# Altium schematic symbol library ic-logic.SchLib: 21 symbols
Pins are listed as number, name and electrical type; pins without a type are passive.

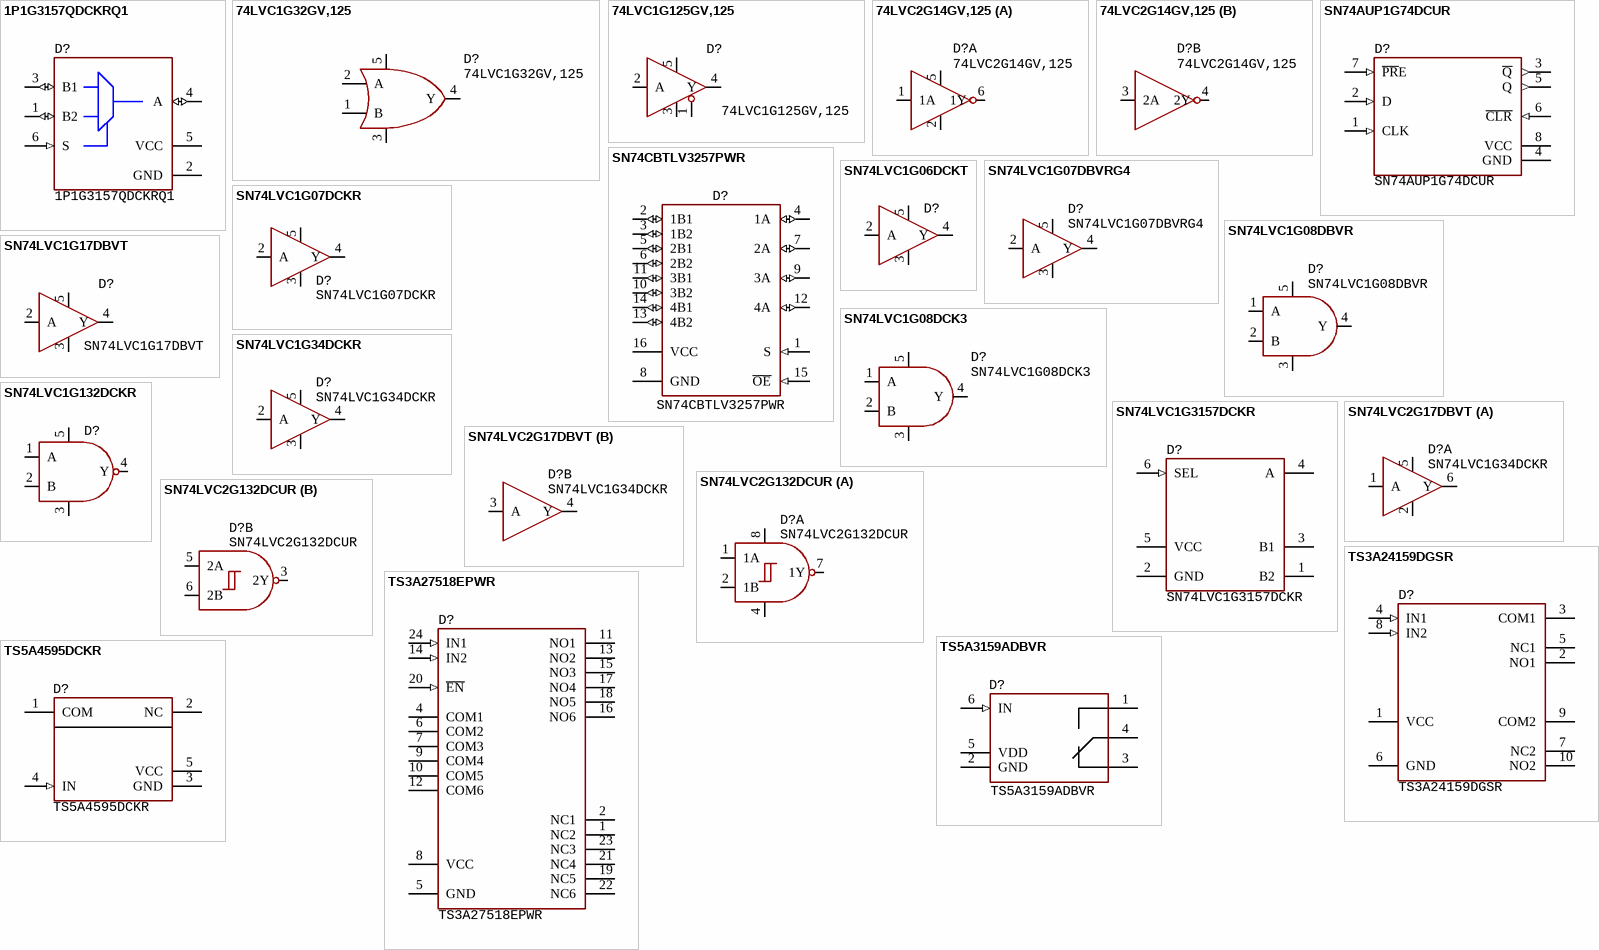
[diagram p0: symbols 1P1G3157QDCKRQ1 to TS5A4595DCKR]

## 1P1G3157QDCKRQ1
designator D?
Analog switch, 1 pole, 1.65...5.5V, 15 Ohms, SC-70-6, -40...+125°C; Manufacturer: Texas Instruments; Package: SC-70-6; HelpURL: https://www.mouser.com/ProductDetail/Texas-Instruments/1P1G3157QDCKRQ1?qs=%2Fha2pyFaduiUJMScsfPg68chY3bChjCSu2b4JoFHBef8j3LlniS09w%3D%3D; Manufacturer Part Number: 1P1G3157QDCKRQ1; Component Type: Interface; PartNumber: 1P1G3157QDCKRQ1
footprint SC70-6
pins: 1 B2 (io), 2 GND, 3 B1 (io), 4 A (io), 5 VCC, 6 S (in)

## 74LVC1G32GV,125
designator D?
OR, 2 input, 32 mA, supply 1.65...5.5V, SOT-23-5 (SC-74A-5), -40...+125°C; Manufacturer: Nexperia; HelpURL: https://www.mouser.com/ProductDetail/Nexperia/74LVC1G32GV125?qs=me8TqzrmIYXExQH4V9SARg%3D%3D; Package: SOT-23-5; Manufacturer Part Number: 74LVC1G32GV,125; Component Type: Logic; PartNumber: 74LVC1G32GV,125
footprint SOT23-5 (pitch 0.95 mm)
pins: 1 B, 2 A, 3 GND, 4 Y, 5 VDD

## 74LVC1G125GV,125
designator D?
Buffer, 32 mA, 5.5ns, supply 1.65...5.5V, SC-74A-5, -40...+125°C; Manufacturer: Nexperia; Manufacturer: NXP Semiconductors; Package: SC-74A-5; HelpURL: https://www.mouser.com/ProductDetail/Nexperia/74LVC1G125GV125?qs=%2Fha2pyFadui5%2FGGEC%2FVyhjOA8QwInj0hXNWtQZwklniRB7kLLcXiAw%3D%3D; PartNumber: 74LVC1G125GV,125
footprint SOT23-5 (pitch 0.95 mm)
pins: 1 #OE, 2 A, 3 GND (power), 4 Y, 5 VCC (power)

## 74LVC2G14GV,125
designator D?
Inverting Trigger, 2 channels, 24mA, 5.5ns, supply 1.65...5.5V, SOT-23-6, -40...+125°C; Manufacturer: Nexperia; HelpURL: https://ru.mouser.com/ProductDetail/Nexperia/74LVC2G14GV125?qs=me8TqzrmIYWSRNkZJZJAxg%3D%3D; Package: SOT-23-6; Manufacturer Part Number: 74LVC2G14GV,125; Component Type: Logic; PartNumber: 74LVC2G14GV,125
footprint SOT23-6 (pitch 0.95 mm)
part A pins: 1 1A, 2 GND, 5 VCC, 6 1Y
part B pins: 3 2A, 4 2Y

## SN74AUP1G74DCUR
designator D?
D-trigger, 4 mA, supply 0.8...3.6V, VSSOP-8, -40...+85°C; Manufacture: Texas Instruments; HelpURL: https://eu.mouser.com/ProductDetail/Texas-Instruments/SN74AUP1G74DCUR?qs=7kv20MEVUlht0wF4P3v%252Bhg%3D%3D; Package: VSSOP-8; PartNumber: SN74AUP1G74DCUR
footprint 8-VSSOP
pins: 1 CLK (in), 2 D (in), 3 ~{Q} (out), 4 GND, 5 Q (out), 6 ~{CLR} (in), 7 ~{PR}E (in), 8 VCC

## SN74CBTLV3257PWR
designator D?
Multiplexer/demultiplexer, 4 bit, 2.3...3.6V, TSSOP-16, -40...+85°C; Manufacturer: Texas instruments; HelpURL: https://www.mouser.com/ProductDetail/Texas-Instruments/SN74CBTLV3257PWR?qs=%2Fha2pyFaduj0jkaZeFbDsR7e%252BMxJ1%252BwxTXiV%2FYrqNyNmNGBTTpk80A%3D%3D; Package: TSSOP-16; Manufacturer: Texas Instruments; Manufacturer Part Number: SN74CBTLV3257PWR; Component Type: Logic; PartNumber: SN74CBTLV3257PWR
footprint 16-SSOP (pitch 0.635 mm)
pins: 1 S (in), 2 1B1 (io), 3 1B2 (io), 4 1A (io), 5 2B1 (io), 6 2B2 (io), 7 2A (io), 8 GND, 9 3A (io), 10 3B2 (io), 11 3B1 (io), 12 4A (io), 13 4B2 (io), 14 4B1 (io), 15 ~{OE} (in), 16 VCC

## SN74LVC1G06DCKT
designator D?  (value not drawn)
Buffer, Open Drain, 32mA, supply 1.65...5.5V, SC-70-5, -40...+125°C; Manufacturer: Texas Instruments; PartNumber: SN74LVC1G06DCKT; Package: SC-70-5; HelpURL: https://ru.mouser.com/ProductDetail/Texas-Instruments/SN74LVC1G06DCKT?qs=pajgIaoyDUgT6MJoS5pgkQ%3D%3D; Manufacturer Part Number: SN74LVC1G06DCKT; Component Type: Logic
footprint SC70-5
pins: 2 A, 3 GND, 4 Y, 5 VDD

## SN74LVC1G07DBVRG4
designator D?
Buffer, Open Drain, 32mA, supply 1.65...5.5V, SOT-23-5, -40...+125°C; Manufacturer: Texas Instruments; HelpURL: https://ru.mouser.com/ProductDetail/Texas-Instruments/SN74LVC1G07DBVRG4?qs=pajgIaoyDUiUY50QI%2FtC2w%3D%3D; Package: SOT-23-5; Manufacturer Part Number: SN74LVC1G07DBVRG4; Component Type: Logic; PartNumber: SN74LVC1G07DBVRG4
footprint SOT23-5 (pitch 0.95 mm)
pins: 2 A, 3 GND, 4 Y, 5 VDD

## SN74LVC1G07DCKR
designator D?
Buffer, Open Drain, 32mA, supply 1.65...5.5V, SC-70-5, -40...+125°C; Manufacturer: Texas Instruments; HelpURL: https://ru.mouser.com/ProductDetail/Texas-Instruments/SN74LVC1G07DCKR?qs=EIjG%252BN7kn%252Bm5urWpZFTEPA%3D%3D; Package: SC-70-5; Manufacturer Part Number: SN74LVC1G07DCKR; Component Type: Logic; PartNumber: SN74LVC1G07DCKR
footprint SC70-5
pins: 2 A, 3 GND, 4 Y, 5 VDD

## SN74LVC1G08DBVR
designator D?
AND, 2 input, 32 mA, supply 1.65...5.5V, SOT-23-5, -40...+125°C; Manufacturer: Texas Instruments; Package: SOT-23-5; HelpURL: https://ru.mouser.com/ProductDetail/Texas-Instruments/SN74LVC1G08DBVR?qs=8yeEWhuAOtNjtL049wSCoQ%3D%3D; Manufacturer Part Number: SN74LVC1G08DBVR; Component Type: Logic; PartNumber: SN74LVC1G08DBVR
footprint SOT23-5 (pitch 0.95 mm)
pins: 1 A, 2 B, 3 GND, 4 Y, 5 VDD

## SN74LVC1G08DCK3
designator D?
AND, 2 input, 32 mA, supply 1.65...5.5V, SC-70-5, -40...+125°C; Manufacturer: Texas Instruments; Package: SC-70-5; PartNumber: SN74LVC1G08DCK3; HelpURL: https://ru.mouser.com/ProductDetail/Texas-Instruments/SN74LVC1G08DCK3?qs=2yujazEvlDGecrTU1niTkA%3D%3D; Manufacturer Part Number: SN74LVC1G08DCK3; Component Type: Logic
footprint SC70-5
pins: 1 A, 2 B, 3 GND, 4 Y, 5 VDD

## SN74LVC1G17DBVT
designator D?
Schmitt Trigger, supply 1.65...5.5V, SOT-23-5, -40...+125°C; Manufacturer: Texas Instruments; HelpURL: https://ru.mouser.com/ProductDetail/Texas-Instruments/SN74LVC1G17DBVT?qs=pajgIaoyDUjLdDGl76l3mA%3D%3D; Package: SOT-23-5; Manufacturer Part Number: SN74LVC1G17DBVT; Component Type: Logic; PartNumber: SN74LVC1G17DBVT
footprint SOT23-5 (pitch 0.95 mm)
pins: 2 A, 3 GND, 4 Y, 5 VDD

## SN74LVC1G34DCKR
designator D?
Buffer, Push-Pull, 32mA, supply 1.65...5.5V, SC-70-5, -40...+125°C; Manufacturer: Texas Instruments; Package: SC-70-5; HelpURL: https://ru.mouser.com/ProductDetail/Texas-Instruments/SN74LVC1G34DCKR?qs=dT9u2OTAaVVMBoPdCBshGg%3D%3D; Manufacturer Part Number: SN74LVC1G34DCKR; Component Type: Logic; PartNumber: SN74LVC1G34DCKR
footprint SC70-5
pins: 2 A, 3 GND, 4 Y, 5 VDD

## SN74LVC1G132DCKR
designator D?  (value not drawn)
NAND, 32 mA, 6ns, supply 1.65...5.5V, SC-70-5, -40...+125°C; Manufacturer: Texas Instruments; PartNumber: SN74LVC1G132DCKR; Package: SC-70-5; HelpURL: https://ru.mouser.com/ProductDetail/Texas-Instruments/SN74LVC1G132DCKR?qs=nqigI8dpoHL8JNZWqteaEg%3D%3D; Manufacturer Part Number: SN74LVC1G132DCKR; Component Type: Logic
footprint SC70-5
pins: 1 A, 2 B, 3 GND (power), 4 Y, 5 VDD (power)

## SN74LVC1G3157DCKR
designator D?
Analog switch, 8Ohm, 14ns, supply 1.65...5.5V, SC-70-6, -40...+85°C; Manufacturer: Texas Instruments; Package: SC-70-6; HelpURL: https://ru.mouser.com/ProductDetail/Texas-Instruments/SN74LVC1G3157DCKR?qs=PVVDbbWpW3J21wbz0QWbxg%3D%3D; Manufacturer Part Number: SN74LVC1G3157DCKR; Component Type: Interface; PartNumber: SN74LVC1G3157DCKR
footprint SC70-6
pins: 1 B2, 2 GND, 3 B1, 4 A, 5 VCC, 6 SEL (in)

## SN74LVC2G17DBVT
designator D?  PartNumber: SN74LVC1G34DCKR  (hidden comment: SN74LVC2G17DBVT)
Buffer, Push-Pull, 32mA, supply 1.65...5.5V, SOT-23-6, -40...+125°C; Manufacturer: Texas Instruments; Package: SOT-23-6; HelpURL: https://eu.mouser.com/ProductDetail/Texas-Instruments/SN74LVC2G17DBVT?qs=pajgIaoyDUjxtZSztFA6UQ%3D%3D
footprint SOT23-6 (pitch 0.95 mm)
part A pins: 1 A, 2 GND, 5 VDD, 6 Y
part B pins: 3 A, 4 Y

## SN74LVC2G132DCUR
designator D?
NAND, 2 channels, 32 mA, 6ns, supply 1.65...5.5V, VSSOP-8, -40...+125°C; Manufacture: Texas Instruments; HelpURL: https://eu.mouser.com/ProductDetail/Texas-Instruments/SN74LVC2G132DCUR?qs=nqigI8dpoHJ0N1g1zLgJrg%3D%3D; Package: VSSOP-8; PartNumber: SN74LVC2G132DCUR
footprint 8-VSSOP
part A pins: 1 1A, 2 1B, 4 GND (power), 7 1Y, 8 VDD (power)
part B pins: 3 2Y, 5 2A, 6 2B

## TS3A24159DGSR
designator D?
Analog switch, 2 channels, 0.3 Ohm, 25ns, supply 1.65...3.6V, MSOP-10, -40...+85°C; Manufacturer: Texas Instruments; Package: MSOP-10; HelpURL: https://ru.mouser.com/ProductDetail/Texas-Instruments/TS3A24159DGSR?qs=0OHPnBYoB%2Flfi%2F6h%252BEz0kA%3D%3D; Manufacturer Part Number: TS3A24159DGSR; Component Type: Interface; PartNumber: TS3A24159DGSR
footprint 10-MSOP (3x3 mm, pitch 0.5 mm)
pins: 1 VCC, 2 NO1, 3 COM1, 4 IN1 (in), 5 NC1, 6 GND, 7 NC2, 8 IN2 (in), 9 COM2, 10 NO2

## TS3A27518EPWR
designator D?
Analog switch, 6 channels, 7.6 Ohm, 59ns, supply 1.65...3.6V, TSSOP-24, -40...+85°C; Manufacturer: Texas Instruments; HelpURL: https://ru.mouser.com/ProductDetail/Texas-Instruments/TS3A27518EPWR?qs=YSiH1jAPZCmHySeAR5cBjQ%3D%3D; Package: TSSOP-24; Manufacturer Part Number: TS3A27518EPWR; Component Type: Interface; PartNumber: TS3A27518EPWR
footprint 24-TSSOP (pitch 0.65 mm)
pins: 1 NC2, 2 NC1, 4 COM1, 5 GND, 6 COM2, 7 COM3, 8 VCC, 9 COM4, 10 COM5, 11 NO1, 12 COM6, 13 NO2, 14 IN2 (in), 15 NO3, 16 NO6, 17 NO4, 18 NO5, 19 NC5, 20 ~{EN} (in), 21 NC4, 22 NC6, 23 NC3, 24 IN1 (in)

## TS5A3159ADBVR
designator D?
Analog switch, 900 mOhm, 30ns, supply 1.65...5.5V, SOT23-6, -40...+85°C; Manufacturer: Texas Instruments; HelpURL: https://eu.mouser.com/ProductDetail/Texas-Instruments/TS5A3159ADBVR?qs=0O%2FZFlpUpJVYo%2F1DRGcz3w%3D%3D; Package: SOT23-6; PartNumber: TS5A3159ADBVR
footprint SOT23-6 (pitch 0.95 mm)
pins: 1 NO, 2 GND, 3 NC, 4 COM, 5 VDD, 6 IN (in)

## TS5A4595DCKR
designator D?
Analog switch, 8Ohm, 14ns, supply 2...5.5V, SC-70-5, -40...+85°C; Manufacturer: Texas Instruments; HelpURL: https://ru.mouser.com/ProductDetail/Texas-Instruments/TS5A4595DCKR?qs=0O%2FZFlpUpJVUr8y6muYazQ%3D%3D; Package: SC-70-5; Manufacturer Part Number: TS5A4595DCKR; Component Type: Interface; PartNumber: TS5A4595DCKR
footprint SC70-5
pins: 1 COM, 2 NC, 3 GND, 4 IN (in), 5 VCC